# Altium schematic symbol library abc encoder conn.SchLib: 2 symbols
Pins are listed as number, name and electrical type; pins without a type are passive.

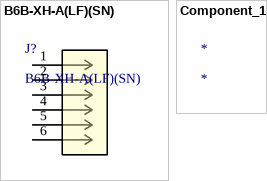
[diagram p0: symbols B6B-XH-A(LF)(SN) to Component_1]

## B6B-XH-A(LF)(SN)
designator J?
No Description Available; Vendor: JST; Built_By: EMA_Cory; SourceLibrary: JST_2019-12-02; Manufacturer_Part_Number: B6B-XH-A(LF)(SN); Copyright: Copyright (C) 2018 Accelerated Designs. All rights reserved; RefDes: RefDes; Type: DEV
footprint CONN_B6B-XH-A(LF)(SN)_JST
pins: 1, 2, 3, 4, 5, 6

## Component_1
designator *